# EAGLE library part MCP3424 (library Microchip)
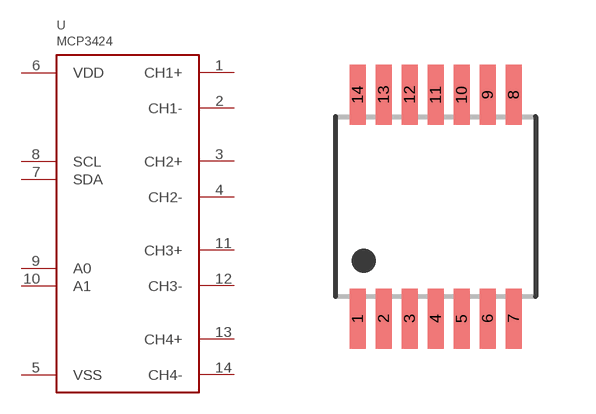
[diagram p40: symbol with the pads of TSSOP14; footprint TSSOP14]

Designator prefix U

## MCP3424  [TSSOP14]
1  CH1+
2  CH1-
3  CH2+
4  CH2-
5  VSS
6  VDD
7  SDA
8  SCL
9  A0
10  A1
11  CH3+
12  CH3-
13  CH4+
14  CH4-

## Footprint TSSOP14 (pad centres in mm)
smd 0.4 x 1.5: 1 -1.95,-2.8; 2 -1.3,-2.8; 3 -0.65,-2.8; 4 0,-2.8; 5 0.65,-2.8; 6 1.3,-2.8; 7 1.95,-2.8; 8 1.95,2.8; 9 1.3,2.8; 10 0.65,2.796; 11 0,2.796; 12 -0.65,2.8; 13 -1.3,2.8; 14 -1.95,2.8